# EAGLE library part LM76 (library 000001)
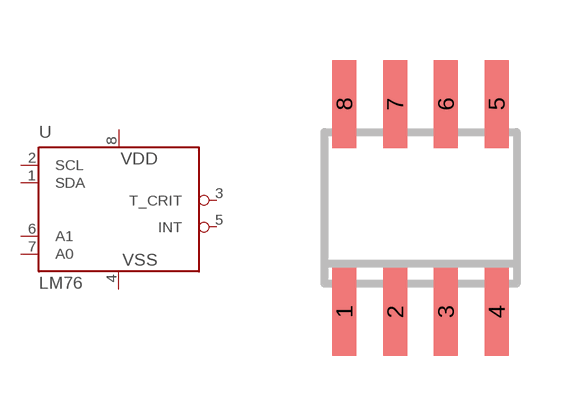
[diagram p106: symbol with the pads of SO-08; footprint SO-08]

Designator prefix -

## LM76  [SO-08]
1  SDA
2  SCL  in
3  T_CRIT  out
4  GND  pwr
5  INT  out
6  A1  in
7  A0  in
8  VDD  pwr

## Footprint SO-08 (pad centres in mm)
Small Outline Narrow Plastic Gull Wing 150-mil body, package type SN
smd 0.6 x 2.2: 1 -1.905,-2.6; 2 -0.635,-2.6; 3 0.635,-2.6; 4 1.905,-2.6; 5 1.905,2.6; 6 0.635,2.6; 7 -0.635,2.6; 8 -1.905,2.6